# Altium footprint library DOSA_bricks.PcbLib: 3 footprints
Each footprint in its own frame and in the unit in brackets; x right, y up, seen from the top. Pads: shape width x height; smd on the part's side, far side on the other; paste and mask are expansions set on the pad; w line width, h text height; cw(c..) or ccw(c..) is an arc to the next point about the centre after c.
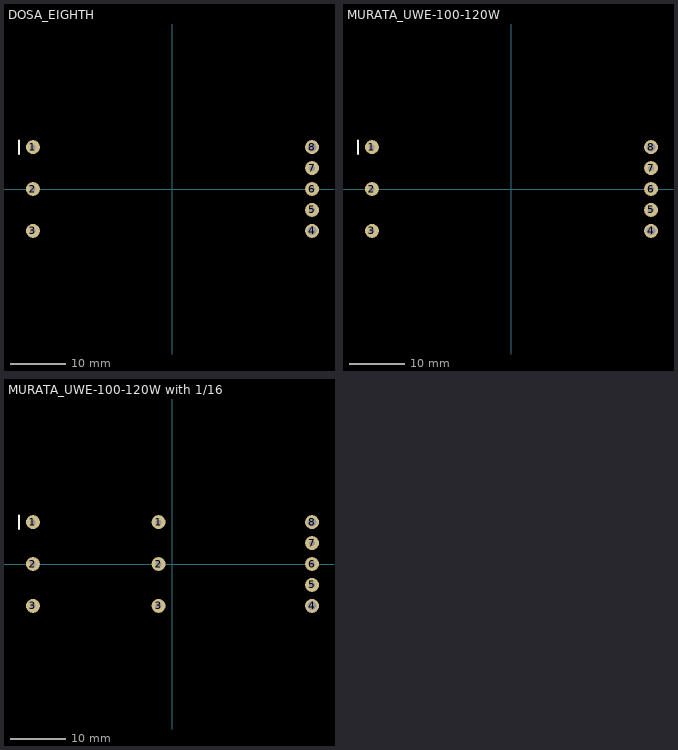
[diagram p0: the footprints below, top view; thin cyan lines are the x and y axes]

## DOSA_EIGHTH [mil] "Standard DOSA eight-brick footprint"
pads (8):
  round 100 hole 40: 1(-1000,300) 2(-1000,0) 3(-1000,-300) 5(1000,-150) 6(1000,0) 7(1000,150)
  round 100 hole 62: 4(1000,-300) 8(1000,300)
Top Overlay:
  lines w12: -1100,250 -1100,350

## MURATA_UWE-100-120W [mil] "Wide Input, Isolated Eighth-Brick DC-DC Converters"
pads (8):
  round 100 hole 40: 1(-1000,300) 2(-1000,0) 3(-1000,-300) 5(1000,-150) 6(1000,0) 7(1000,150)
  round 100 hole 62: 4(1000,-300) 8(1000,300)
Top Overlay:
  lines w12: -1100,250 -1100,350
3D body "murata_uwe_120_bp_a.step": height 483.15, standoff -186.82, extent -1149.99,-449.99 1150.01,450.01

## MURATA_UWE-100-120W with 1/16 [mil] "UWE-100-120W with extra 1/16 footprint added"
pads (11):
  round 100 hole 40: 1(-1000,300) 1(-100,300) 2(-1000,0) 2(-100,0) 3(-1000,-300) 3(-100,-300) 5(1000,-150) 6(1000,0) 7(1000,150)
  round 100 hole 62: 4(1000,-300) 8(1000,300)
Top Overlay:
  lines w12: -1100,250 -1100,350
3D body "murata_uwe_120_bp_a.step": height 483.15, standoff -186.82, extent -1149.99,-449.99 1150.01,450.01